# Altium footprint library diy-modules.PCBLIB: 111 footprints (part 1 of 7)
Each footprint in its own frame and in the unit in brackets; x right, y up, seen from the top. Pads: shape width x height; smd on the part's side, far side on the other; paste and mask are expansions set on the pad; w line width, h text height; cw(c..) or ccw(c..) is an arc to the next point about the centre after c.
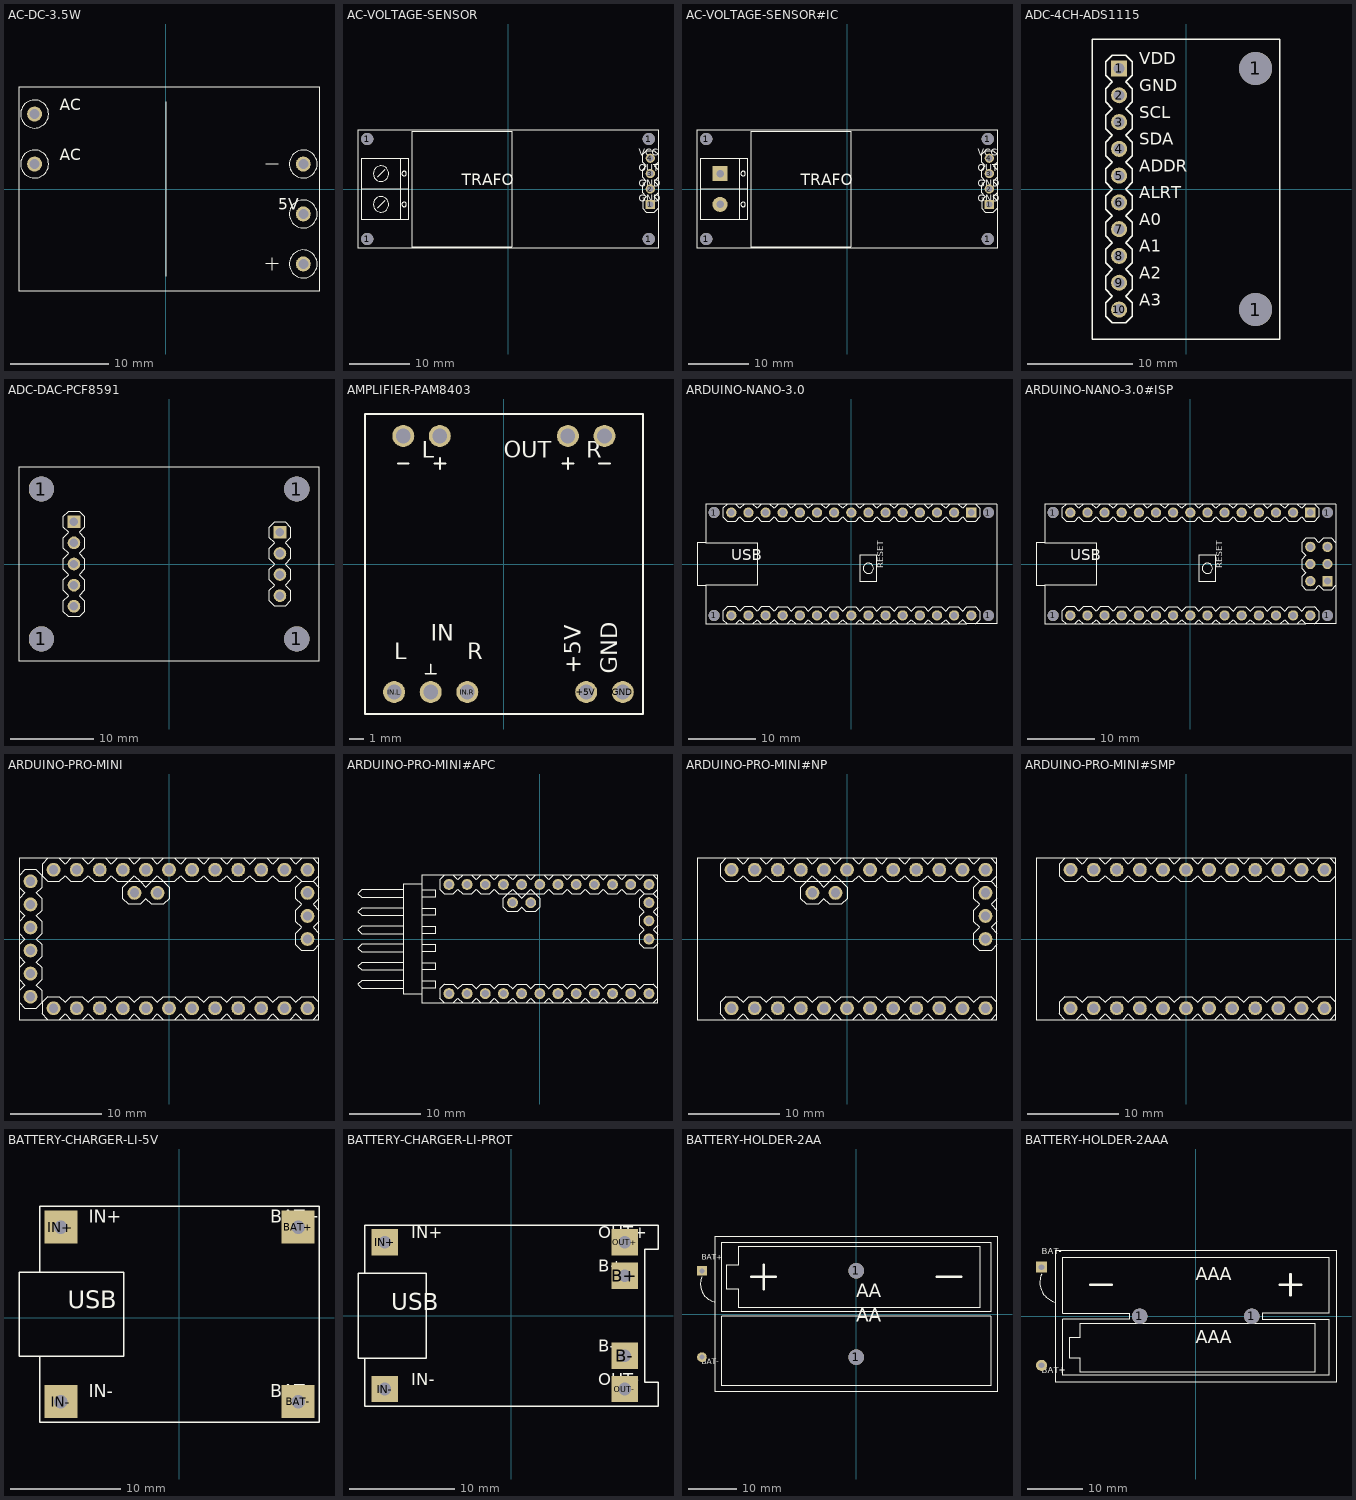
[diagram p0: the footprints below, top view; thin cyan lines are the x and y axes]

## AC-DC-3.5W [mil]
pads (5):
  round 60 hole 40: J1.1(-525,300) J1.2(-525,100) J2.1(550,100) J2.2(550,-100) J2.3(550,-300)
Top Overlay:
  circle w5: c-525,300 r56
  circle w5: c-525,100 r56
  circle w5: c550,100 r56
  circle w5: c550,-100 r56
  circle w5: c550,-300 r56
  lines w5: 0,-350 0,350 ; 400,-300 450,-300 ; 400,100 450,100 ; 425,-325 425,-275 ; -587.5,-410 613,-410 613,410 -587.5,410 -587.5,-410
  text "AC" at -425,300 h77.5
  text "AC" at -425,100 h77.5
  text "5V" at 450,-100 h77.5

## AC-VOLTAGE-SENSOR [mil]
pads (8):
  round 79 hole 79: 1(-915,-325) 1(-915,325) 1(915,-325) 1(915,325)
  rect 60x60 hole 40: 1(925,-100)
  round 60 hole 40: 2(925,0) 3(925,100) 4(925,200)
Top Overlay:
  circle w5: c-825,100 r50
  circle w5: c-825,-100 r50
  circle w5: c-675,100 r15
  circle w5: c-675,-100 r15
  lines w5: -850,-125 -800,-75 ; -850,75 -800,125 ; 975,-125 950,-150 900,-150 875,-125 875,-75 900,-50 875,-25 875,25 900,50 875,75 875,125 900,150 875,175 875,225 900,250 950,250 975,225 ; 975,-75 950,-50 975,-25 ; 975,25 950,50 975,75 ; 975,125 950,150 975,175 ; -950,0 -950,-200 -700,-200 ; -950,0 -950,200 -700,200 ; -950,0 -650,0 ; -700,-200 -650,-200 -650,0 ; -700,-200 -700,200 ; -700,200 -650,200 -650,0 ; -975,-385 975,-385 975,385 -975,385 -975,-385 ; -625,-375 -625,375 25,375 25,-375 -625,-375
  text "VCC" at 850,200 h77.5
  text "OUT" at 850,100 h77.5
  text "GND" at 850,0 h77.5
  text "GND" at 850,-100 h77.5
  text "TRAFO" at -300,0 h124

## AC-VOLTAGE-SENSOR#IC [mil]
pads (10):
  round 79 hole 79: 1(-915,-325) 1(-915,325) 1(915,-325) 1(915,325)
  rect 60x60 hole 40: 1(925,-100)
  round 60 hole 40: 2(925,0) 3(925,100) 4(925,200)
  rect 99x99 hole 48: P1.1(-825,100)
  round 99 hole 48: P1.2(-825,-100)
Top Overlay:
  circle w5: c-675,100 r15
  circle w5: c-675,-100 r15
  lines w5: 975,-125 950,-150 900,-150 875,-125 875,-75 900,-50 875,-25 875,25 900,50 875,75 875,125 900,150 875,175 875,225 900,250 950,250 975,225 ; 975,-75 950,-50 975,-25 ; 975,25 950,50 975,75 ; 975,125 950,150 975,175 ; -950,0 -950,-200 -700,-200 ; -950,0 -950,200 -700,200 ; -950,0 -650,0 ; -700,-200 -650,-200 -650,0 ; -700,-200 -700,200 ; -700,200 -650,200 -650,0 ; -975,-385 975,-385 975,385 -975,385 -975,-385 ; -625,-375 -625,375 25,375 25,-375 -625,-375
  text "VCC" at 850,200 h77.5
  text "OUT" at 850,100 h77.5
  text "GND" at 850,0 h77.5
  text "GND" at 850,-100 h77.5
  text "TRAFO" at -300,0 h124

## ADC-4CH-ADS1115 [mil]
pads (12):
  rect 60x60 hole 40: 1(-250,450)
  round 123 hole 123: 1(260,-450) 1(260,450)
  round 60 hole 40: 2(-250,350) 3(-250,250) 4(-250,150) 5(-250,50) 6(-250,-50) 7(-250,-150) 8(-250,-250) 9(-250,-350) 10(-250,-450)
Top Overlay:
  lines w5: -350,-560 350,-560 350,560 -350,560 -350,-560 ; -300,-475 -300,-425 -275,-400 -300,-375 -300,-325 -275,-300 -300,-275 -300,-225 -275,-200 -300,-175 -300,-125 -275,-100 -300,-75 -300,-25 -275,0 -300,25 -300,75 -275,100 -300,125 -300,175 -275,200 -300,225 -300,275 -275,300 -300,325 -300,375 -275,400 -300,425 -300,475 -275,500 -225,500 -200,475 -200,425 -225,400 -200,375 -200,325 -225,300 -200,275 -200,225 -225,200 -200,175 -200,125 -225,100 -200,75 -200,25 -225,0 -200,-25 -200,-75 -225,-100 -200,-125 -200,-175 -225,-200 -200,-225 -200,-275 -225,-300 -200,-325 -200,-375 -225,-400 -200,-425 -200,-475 -225,-500 -275,-500 -300,-475
  text "VDD" at -175,450 h77.5
  text "GND" at -175,350 h77.5
  text "SCL" at -175,250 h77.5
  text "SDA" at -175,150 h77.5
  text "ADDR" at -175,50 h77.5
  text "ALRT" at -175,-50 h77.5
  text "A0" at -175,-150 h77.5
  text "A1" at -175,-250 h77.5
  text "A2" at -175,-350 h77.5
  text "A3" at -175,-450 h77.5

## ADC-DAC-PCF8591 [mil]
pads (13):
  round 119 hole 119: 1(-604.33,-354.33) 1(-604.33,355) 1(605,-354.33) 1(605,355)
  rect 60x60 hole 40: J1.1(-450,200) J2.1(525,150)
  round 60 hole 40: J1.2(-450,100) J1.3(-450,0) J1.4(-450,-100) J1.5(-450,-200) J2.2(525,50) J2.3(525,-50) J2.4(525,-150)
Top Overlay:
  lines w5: -710,-460 710,-460 710,460 -710,460 -710,-460 ; -500,-225 -475,-250 -425,-250 -400,-225 -400,-175 -425,-150 -400,-125 -400,-75 -425,-50 -400,-25 -400,25 -425,50 -400,75 -400,125 -425,150 -400,175 -400,225 -425,250 -475,250 -500,225 -500,175 -475,150 -500,125 -500,75 -475,50 -500,25 -500,-25 -475,-50 -500,-75 -500,-125 -475,-150 -500,-175 -500,-225 ; 475,-175 500,-200 550,-200 575,-175 575,-125 550,-100 575,-75 575,-25 550,0 575,25 575,75 550,100 575,125 575,175 550,200 500,200 475,175 475,125 500,100 475,75 475,25 500,0 475,-25 475,-75 500,-100 475,-125 475,-175

## AMPLIFIER-PAM8403 [mil]
pads (9):
  round 60 hole 40: +5V(225,-350) GND(325,-350) IN.COM(-200,-350) IN.L(-300,-350) IN.R(-100,-350) OUT.L+(-175,350) OUT.L-(-275,350) OUT.R+(175,350) OUT.R-(275,350)
Top Overlay:
  lines w5: -290,275 -260,275 ; -215,-300 -185,-300 ; -200,-300 -200,-275 ; -190,275 -160,275 ; -175,260 -175,290 ; 160,275 190,275 ; 175,260 175,290 ; 260,275 290,275 ; -380,-410 380,-410 380,410 -380,410 -380,-410
  text "IN" at -200,-225 h77.5
  text "OUT" at 0,275 h77.5
  text "L" at -300,-275 h77.5
  text "R" at -100,-275 h77.5
  text "L" at -225,275 h77.5
  text "R" at 225,275 h77.5
  text "+5V" at 225,-300 h77.5
  text "GND" at 325,-300 h77.5

## ARDUINO-NANO-3.0 [mil]
pads (34):
  round 65 hole 65: 1(-800,-300) 1(-800,300) 1(800,-300) 1(800,300)
  rect 60x60 hole 40: J1.1(700,300)
  round 60 hole 40: J1.2(600,300) J1.3(500,300) J1.4(400,300) J1.5(300,300) J1.6(200,300) J1.7(100,300) J1.8(0,300) J1.9(-100,300) J1.10(-200,300) J1.11(-300,300) J1.12(-400,300) J1.13(-500,300) J1.14(-600,300) J1.15(-700,300) J2.1(700,-300) J2.2(600,-300) J2.3(500,-300) J2.4(400,-300) J2.5(300,-300) J2.6(200,-300) J2.7(100,-300) J2.8(0,-300) J2.9(-100,-300) J2.10(-200,-300) J2.11(-300,-300) J2.12(-400,-300) J2.13(-500,-300) J2.14(-600,-300) J2.15(-700,-300)
Top Overlay:
  drawing of 209 lines, arcs and shapes, not listed
  text "USB" at -700,0 h108.5
  text "RESET" at 200,-25 h62

## ARDUINO-NANO-3.0#ISP [mil]
pads (40):
  round 65 hole 65: 1(-800,-300) 1(-800,300) 1(800,-300) 1(800,300)
  rect 60x60 hole 40: J1.1(700,300) J4.1(800,-100)
  round 60 hole 40: J1.2(600,300) J1.3(500,300) J1.4(400,300) J1.5(300,300) J1.6(200,300) J1.7(100,300) J1.8(0,300) J1.9(-100,300) J1.10(-200,300) J1.11(-300,300) J1.12(-400,300) J1.13(-500,300) J1.14(-600,300) J1.15(-700,300) J2.1(700,-300) J2.2(600,-300) J2.3(500,-300) J2.4(400,-300) J2.5(300,-300) J2.6(200,-300) J2.7(100,-300) J2.8(0,-300) J2.9(-100,-300) J2.10(-200,-300) J2.11(-300,-300) J2.12(-400,-300) J2.13(-500,-300) J2.14(-600,-300) J2.15(-700,-300) J4.2(700,-100) J4.3(800,0) J4.4(700,0) J4.5(800,100) J4.6(700,100)
Top Overlay:
  drawing of 228 lines, arcs and shapes, not listed
  text "USB" at -700,0 h108.5
  text "RESET" at 200,-25 h62

## ARDUINO-PRO-MINI [mil]
pads (35):
  round 60 hole 40: J1.1(-600,250) J1.2(-600,150) J1.3(-600,50) J1.4(-600,-50) J1.5(-600,-150) J1.6(-600,-250) J2.1(-50,200) J2.2(-150,200) J3.1(600,0) J3.2(600,100) J3.3(600,200) J6.1(-500,300) J6.2(-400,300) J6.3(-300,300) J6.4(-200,300) J6.5(-100,300) J6.6(0,300) J6.7(100,300) J6.8(200,300) J6.9(300,300) J6.10(400,300) J6.11(500,300) J6.12(600,300) J7.1(600,-300) J7.2(500,-300) J7.3(400,-300) J7.4(300,-300) J7.5(200,-300) J7.6(100,-300) J7.7(0,-300) J7.8(-100,-300) J7.9(-200,-300) J7.10(-300,-300) J7.11(-400,-300) J7.12(-500,-300)
Top Overlay:
  drawing of 213 lines, arcs and shapes, not listed

## ARDUINO-PRO-MINI#APC [mil]
pads (29):
  round 60 hole 40: J2.1(-50,200) J2.2(-150,200) J3.1(600,0) J3.2(600,100) J3.3(600,200) J6.1(-500,300) J6.2(-400,300) J6.3(-300,300) J6.4(-200,300) J6.5(-100,300) J6.6(0,300) J6.7(100,300) J6.8(200,300) J6.9(300,300) J6.10(400,300) J6.11(500,300) J6.12(600,300) J7.1(600,-300) J7.2(500,-300) J7.3(400,-300) J7.4(300,-300) J7.5(200,-300) J7.6(100,-300) J7.7(0,-300) J7.8(-100,-300) J7.9(-200,-300) J7.10(-300,-300) J7.11(-400,-300) J7.12(-500,-300)
Top Overlay:
  drawing of 232 lines, arcs and shapes, not listed

## ARDUINO-PRO-MINI#NP [mil]
pads (29):
  round 60 hole 40: J2.1(-50,200) J2.2(-150,200) J3.1(600,0) J3.2(600,100) J3.3(600,200) J6.1(-500,300) J6.2(-400,300) J6.3(-300,300) J6.4(-200,300) J6.5(-100,300) J6.6(0,300) J6.7(100,300) J6.8(200,300) J6.9(300,300) J6.10(400,300) J6.11(500,300) J6.12(600,300) J7.1(600,-300) J7.2(500,-300) J7.3(400,-300) J7.4(300,-300) J7.5(200,-300) J7.6(100,-300) J7.7(0,-300) J7.8(-100,-300) J7.9(-200,-300) J7.10(-300,-300) J7.11(-400,-300) J7.12(-500,-300)
Top Overlay:
  drawing of 185 lines, arcs and shapes, not listed

## ARDUINO-PRO-MINI#SMP [mil]
pads (24):
  round 60 hole 40: J6.1(-500,300) J6.2(-400,300) J6.3(-300,300) J6.4(-200,300) J6.5(-100,300) J6.6(0,300) J6.7(100,300) J6.8(200,300) J6.9(300,300) J6.10(400,300) J6.11(500,300) J6.12(600,300) J7.1(600,-300) J7.2(500,-300) J7.3(400,-300) J7.4(300,-300) J7.5(200,-300) J7.6(100,-300) J7.7(0,-300) J7.8(-100,-300) J7.9(-200,-300) J7.10(-300,-300) J7.11(-400,-300) J7.12(-500,-300)
Top Overlay:
  drawing of 155 lines, arcs and shapes, not listed

## BATTERY-CHARGER-LI-5V [mil]
pads (4):
  rect 119x119 hole 48: BAT+(425,325) BAT-(425,-300) IN+(-425,325) IN-(-425,-300)
Top Overlay:
  lines w5: -500,-137.5 -500,-375 500,-375 500,400 -500,400 -500,163 ; -500,-137.5 -575,-137.5 -575,163 -500,163 ; -500,-137.5 -200,-137.5 -200,163 -500,163
  text "IN+" at -325,325 h77.5
  text "IN-" at -325,-300 h77.5
  text "BAT+" at 325,325 h77.5
  text "BAT-" at 325,-300 h77.5
  text "USB" at -400,13 h108.5

## BATTERY-CHARGER-LI-PROT [mil]
pads (6):
  rect 99x99 hole 48: B+(425,150) B-(425,-150) IN+(-475,275) IN-(-475,-275) OUT+(425,275) OUT-(425,-275)
Top Overlay:
  lines w5: -550,-160 -550,-340 550,-340 550,-250 500,-250 500,250 550,250 550,340 -550,340 -550,160 ; -550,-160 -575,-160 -575,160 -550,160 ; -550,-160 -320,-160 -320,160 -550,160
  text "IN+" at -375,275 h77.5
  text "IN-" at -375,-275 h77.5
  text "B+" at 325,150 h77.5
  text "B-" at 325,-150 h77.5
  text "USB" at -450,0 h108.5
  text "OUT+" at 325,275 h77.5
  text "OUT-" at 325,-275 h77.5

## BATTERY-HOLDER-2AA [mil]
pads (4):
  round 126 hole 126: 1(0,-350) 1(0,350)
  rect 79x79 hole 40: BAT+(-1250,350)
  round 79 hole 40: BAT-(-1250,-350)
Top Overlay:
  lines w5: -1250,300 ccw(c-1116.09,241.96) -1150,100 ; -1140,-630 1140,-630 1140,630 -1140,630 -1140,-630 ; -1090,-580 1090,-580 1090,-20 -1090,-20 -1090,-580 ; -1090,20 -1090,580 1090,580 1090,20 -1090,20 ; -1050,200 -950,200 -950,50 1000,50 1000,550 -950,550 -950,400 -1050,400 -1050,200
  lines w20: -850,300 -650,300 ; -750,200 -750,400 ; 650,300 850,300
  text "BAT+" at -1250,425 h77.5
  text "BAT-" at -1250,-425 h77.5
  text "AA" at 0,100 h186
  text "AA" at 0,-100 h186
Bottom Overlay:
  lines w5: -1250,-300 cw(c-1116.09,-241.96) -1150,-100 ; -1000,-550 -1000,-50 950,-50 950,-200 1050,-200 1050,-400 950,-400 950,-550 -1000,-550
  lines w20: -850,-300 -650,-300 ; 650,-300 850,-300 ; 750,-400 750,-200

## BATTERY-HOLDER-2AAA [mil]
pads (4):
  round 111 hole 111: 1(-400,0) 1(400,0)
  round 79 hole 40: BAT+(-1100,-350)
  rect 79x79 hole 40: BAT-(-1100,350)
Top Overlay:
  lines w5: -1100,300 ccw(c-966.09,241.96) -1000,100 ; -1000,-470 1000,-470 1000,470 -1000,470 -1000,-470 ; -950,-420 950,-420 950,-20 475,-20 475,20 950,20 950,420 -950,420 -950,20 -475,20 -475,-20 -950,-20 -950,-420 ; -900,-300 -825,-300 -825,-400 850,-400 850,-50 -825,-50 -825,-150 -900,-150 -900,-300
  lines w20: -750,225 -600,225 ; 600,225 750,225 ; 675,150 675,300
  text "BAT-" at -1100,425 h77.5
  text "BAT+" at -1100,-425 h77.5
  text "AAA" at 0,225 h155
  text "AAA" at 0,-225 h155
Bottom Overlay:
  lines w5: -1100,-300 cw(c-966.09,-241.96) -1000,-100 ; -850,50 -850,400 825,400 825,300 900,300 900,150 825,150 825,50 -850,50
  lines w20: -750,-225 -600,-225 ; -675,-300 -675,-150 ; 600,-225 750,-225